# EAGLE library part 1-5102154-1 (library Tyco_By_element14_Batch_1)
HDR 60P VERT
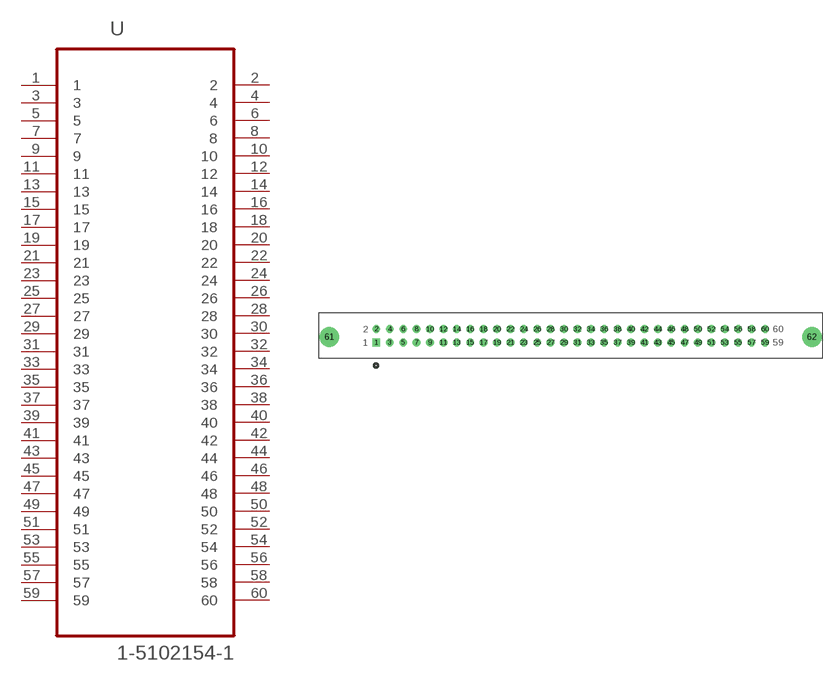
[diagram p10: symbol with the pads of TYCO_1-5102154-1; footprint TYCO_1-5102154-1]

Designator prefix U

## 1-5102154-1 (MPN: 1-5102154-1; OC_FARNELL: 1145286; OC_NEWARK: 74K3504; PACKAGE: 60 WAY HEADER; SUPPLIER: TycoElectronics)  [TYCO_1-5102154-1]
1  1  pas
2  2  pas
3  3  pas
4  4  pas
5  5  pas
6  6  pas
7  7  pas
8  8  pas
9  9  pas
10  10  pas
11  11  pas
12  12  pas
13  13  pas
14  14  pas
15  15  pas
16  16  pas
17  17  pas
18  18  pas
19  19  pas
20  20  pas
21  21  pas
22  22  pas
23  23  pas
24  24  pas
25  25  pas
26  26  pas
27  27  pas
28  28  pas
29  29  pas
30  30  pas
31  31  pas
32  32  pas
33  33  pas
34  34  pas
35  35  pas
36  36  pas
37  37  pas
38  38  pas
39  39  pas
40  40  pas
41  41  pas
42  42  pas
43  43  pas
44  44  pas
45  45  pas
46  46  pas
47  47  pas
48  48  pas
49  49  pas
50  50  pas
51  51  pas
52  52  pas
53  53  pas
54  54  pas
55  55  pas
56  56  pas
57  57  pas
58  58  pas
59  59  pas
60  60  pas

## Footprint TYCO_1-5102154-1 (pad centres in mm)
drill 0.965 square: 1 -73.66,-2.54
drill 0.965: 2 -73.66,0; 3 -71.12,-2.54; 4 -71.12,0; 5 -68.58,-2.54; 6 -68.58,0; 7 -66.04,-2.54; 8 -66.04,0; 9 -63.5,-2.54; 10 -63.5,0; 11 -60.96,-2.54; 12 -60.96,0; 13 -58.42,-2.54; 14 -58.42,0; 15 -55.88,-2.54; 16 -55.88,0; 17 -53.34,-2.54; 18 -53.34,0; 19 -50.8,-2.54; 20 -50.8,0; 21 -48.26,-2.54; 22 -48.26,0; 23 -45.72,-2.54; 24 -45.72,0; 25 -43.18,-2.54; 26 -43.18,0; 27 -40.64,-2.54; 28 -40.64,0; 29 -38.1,-2.54; 30 -38.1,0; 31 -35.56,-2.54; 32 -35.56,0; 33 -33.02,-2.54; 34 -33.02,0; 35 -30.48,-2.54; 36 -30.48,0; 37 -27.94,-2.54; 38 -27.94,0; 39 -25.4,-2.54; 40 -25.4,0; 41 -22.86,-2.54; 42 -22.86,0; 43 -20.32,-2.54; 44 -20.32,0; 45 -17.78,-2.54; 46 -17.78,0; 47 -15.24,-2.54; 48 -15.24,0; 49 -12.7,-2.54; 50 -12.7,0; 51 -10.16,-2.54; 52 -10.16,0; 53 -7.62,-2.54; 54 -7.62,0; 55 -5.08,-2.54; 56 -5.08,0; 57 -2.54,-2.54; 58 -2.54,0; 59 0,-2.54; 60 0,0
drill 2.692: 61 -82.55,-1.524; 62 8.89,-1.524